# EAGLE library part 7-SEG-AC_4 (library !7seg)
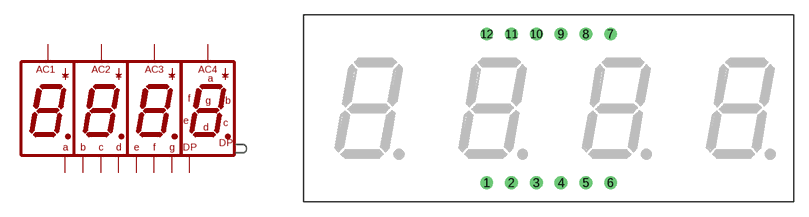
[diagram p0: symbol with the pads of OSL40562; footprint OSL40562]

Designator prefix -

## 7-SEG-AC_4  [OSL40562]
1  E
2  D
3  DP
4  C
5  G
6  AC4  pas
7  B
8  AC3  pas
9  AC2  pas
10  F
11  A
12  AC1  pas

## Footprint OSL40562 (pad centres in mm)
LED DISPLAY 10-mm 1 character 7 segment, decimal point right
drill 0.813: 1 -6.35,-7.62; 2 -3.81,-7.62; 3 -1.27,-7.62; 4 1.27,-7.62; 5 3.81,-7.62; 6 6.35,-7.62; 7 6.35,7.62; 8 3.81,7.62; 9 1.27,7.62; 10 -1.27,7.62; 11 -3.81,7.62; 12 -6.35,7.62